# Altium integrated library Vishay Draloric Ceramic Disc Capacitor.IntLib: 519 symbols (part 6 of 8)
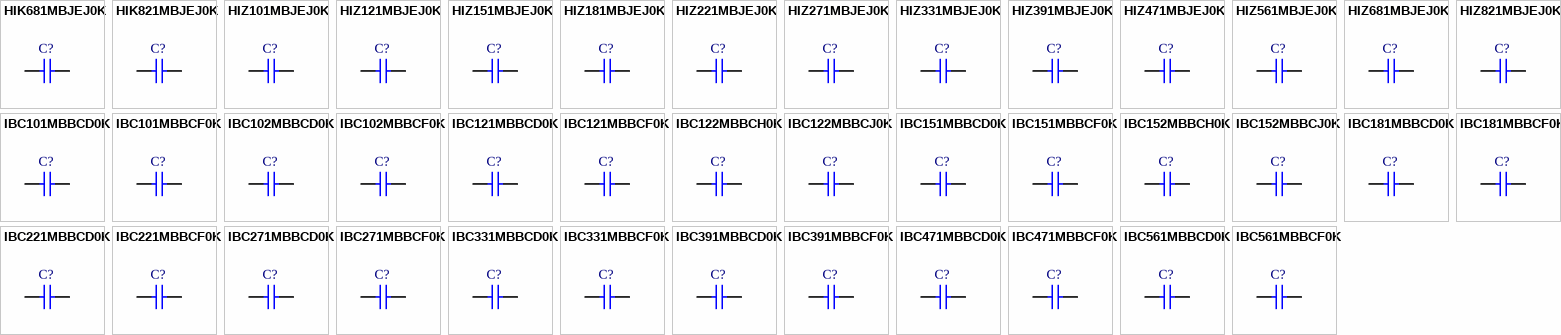
[diagram p17: symbols HIK681MBJEJ0K to IBC561MBBCF0K]

## HIZ331MBJEJ0K
designator C?
Ceramic High Voltage Disc Capacitor, Class 2: 330pF 15kV K 2000; Note: See Datasheet for other lead types & tolerances; Published: 17-Dec-2003; DatasheetDocument: 11-Dec-2001; PackageDocument: 2-Aug-2001; PackageReference: CAPRD12.5-15X11; Publisher: Altium Limited; ComponentLink1Description: Manufacturer Link; ComponentLink1URL: http://www.vishay.com/; ComponentLink2Description: Datasheet; ComponentLink2URL: http://www.vishay.com/docs/22161/h.pdf; Value: 330pF
footprint CAPRD12.5-15X11 (Capacitor, Ceramic, Thru-Hole, Disc; Body 15 x 11 mm (LxW max) Pin Spacing 12.5 mm (typ))
simulation model CAP (Capacitor)
signal-integrity model Cap
pins: 1, 2

## HIZ391MBJEJ0K
designator C?
Ceramic High Voltage Disc Capacitor, Class 2: 390pF 15kV K 2000; Note: See Datasheet for other lead types & tolerances; Published: 17-Dec-2003; DatasheetDocument: 11-Dec-2001; PackageDocument: 2-Aug-2001; PackageReference: CAPRD12.5-16X11; Publisher: Altium Limited; ComponentLink1Description: Manufacturer Link; ComponentLink1URL: http://www.vishay.com/; ComponentLink2Description: Datasheet; ComponentLink2URL: http://www.vishay.com/docs/22161/h.pdf; Value: 390pF
footprint CAPRD12.5-16X11 (Capacitor, Ceramic, Thru-Hole, Disc; Body 16 x 11 mm (LxW max) Pin Spacing 12.5 mm (typ))
simulation model CAP (Capacitor)
signal-integrity model Cap
pins: 1, 2

## HIZ471MBJEJ0K
designator C?
Ceramic High Voltage Disc Capacitor, Class 2: 470pF 15kV K 2000; Note: See Datasheet for other lead types & tolerances; Published: 17-Dec-2003; DatasheetDocument: 11-Dec-2001; PackageDocument: 2-Aug-2001; PackageReference: CAPRD12.5-18X11; Publisher: Altium Limited; ComponentLink1Description: Manufacturer Link; ComponentLink1URL: http://www.vishay.com/; ComponentLink2Description: Datasheet; ComponentLink2URL: http://www.vishay.com/docs/22161/h.pdf; Value: 470pF
footprint CAPRD12.5-18X11 (Capacitor, Ceramic, Thru-Hole, Disc; Body 18 x 11 mm (LxW max) Pin Spacing 12.5 mm (typ))
simulation model CAP (Capacitor)
signal-integrity model Cap
pins: 1, 2

## HIZ561MBJEJ0K
designator C?
Ceramic High Voltage Disc Capacitor, Class 2: 560pF 15kV K 2000; Note: See Datasheet for other lead types & tolerances; Published: 17-Dec-2003; DatasheetDocument: 11-Dec-2001; PackageDocument: 2-Aug-2001; PackageReference: CAPRD12.5-21X11; Publisher: Altium Limited; ComponentLink1Description: Manufacturer Link; ComponentLink1URL: http://www.vishay.com/; ComponentLink2Description: Datasheet; ComponentLink2URL: http://www.vishay.com/docs/22161/h.pdf; Value: 560pF
footprint CAPRD12.5-21X11 (Capacitor, Ceramic, Thru-Hole, Disc; Body 21 x 11 mm (LxW max) Pin Spacing 12.5 mm (typ))
simulation model CAP (Capacitor)
signal-integrity model Cap
pins: 1, 2

## HIZ681MBJEJ0K
designator C?
Ceramic High Voltage Disc Capacitor, Class 2: 680pF 15kV K 2000; Note: See Datasheet for other lead types & tolerances; Published: 17-Dec-2003; DatasheetDocument: 11-Dec-2001; PackageDocument: 2-Aug-2001; PackageReference: CAPRD12.5-21X11; Publisher: Altium Limited; ComponentLink1Description: Manufacturer Link; ComponentLink1URL: http://www.vishay.com/; ComponentLink2Description: Datasheet; ComponentLink2URL: http://www.vishay.com/docs/22161/h.pdf; Value: 680pF
footprint CAPRD12.5-21X11 (Capacitor, Ceramic, Thru-Hole, Disc; Body 21 x 11 mm (LxW max) Pin Spacing 12.5 mm (typ))
simulation model CAP (Capacitor)
signal-integrity model Cap
pins: 1, 2

## HIZ821MBJEJ0K
designator C?
Ceramic High Voltage Disc Capacitor, Class 2: 820pF 15kV K 2000; Note: See Datasheet for other lead types & tolerances; Published: 17-Dec-2003; DatasheetDocument: 11-Dec-2001; PackageDocument: 2-Aug-2001; PackageReference: CAPRD12.5-21X11; Publisher: Altium Limited; ComponentLink1Description: Manufacturer Link; ComponentLink1URL: http://www.vishay.com/; ComponentLink2Description: Datasheet; ComponentLink2URL: http://www.vishay.com/docs/22161/h.pdf; Value: 820pF
footprint CAPRD12.5-21X11 (Capacitor, Ceramic, Thru-Hole, Disc; Body 21 x 11 mm (LxW max) Pin Spacing 12.5 mm (typ))
simulation model CAP (Capacitor)
signal-integrity model Cap
pins: 1, 2

## IBC101MBBCD0K
designator C?
Ceramic Pulse Disc Capacitor, Class 2: 2KV 100pF +/-20% K 2000; Note: See Datasheet for other lead types; Published: 17-Dec-2003; DatasheetDocument: 2-Aug-2001; PackageDocument: 2-Aug-2001; PackageReference: CAPRD7.5-7X5; Publisher: Altium Limited; ComponentLink1Description: Manufacturer Link; ComponentLink1URL: http://www.vishay.com/; ComponentLink2Description: Datasheet; ComponentLink2URL: http://www.vishay.com/docs/22165/ibc.pdf; Value: 100pF
footprint CAPRD7.5-7X5 (Capacitor, Ceramic, Thru-Hole, Disc; Body 7 x 5 mm (LxW max) Pin Spacing 7.5 mm (typ))
simulation model CAP (Capacitor)
signal-integrity model Cap
pins: 1, 2

## IBC101MBBCF0K
designator C?
Ceramic Pulse Disc Capacitor, Class 2: 2KV 100pF +/-20% K 2000; Note: See Datasheet for other lead types; Published: 17-Dec-2003; DatasheetDocument: 2-Aug-2001; PackageDocument: 2-Aug-2001; PackageReference: CAPRD7.5-7X5; Publisher: Altium Limited; ComponentLink1Description: Manufacturer Link; ComponentLink1URL: http://www.vishay.com/; ComponentLink2Description: Datasheet; ComponentLink2URL: http://www.vishay.com/docs/22165/ibc.pdf; Value: 100pF
footprint CAPRD7.5-7X5 (Capacitor, Ceramic, Thru-Hole, Disc; Body 7 x 5 mm (LxW max) Pin Spacing 7.5 mm (typ))
simulation model CAP (Capacitor)
signal-integrity model Cap
pins: 1, 2

## IBC102MBBCD0K
designator C?
Ceramic Pulse Disc Capacitor, Class 2: 2KV 1000pF +/-20% K 2000; Note: See Datasheet for other lead types; Value: 1nF; Published: 17-Dec-2003; DatasheetDocument: 2-Aug-2001; PackageDocument: 2-Aug-2001; PackageReference: CAPRD7.5-17X6; Publisher: Altium Limited; ComponentLink1Description: Manufacturer Link; ComponentLink1URL: http://www.vishay.com/; ComponentLink2Description: Datasheet; ComponentLink2URL: http://www.vishay.com/docs/22165/ibc.pdf
footprint CAPRD7.5-17X6 (Capacitor, Ceramic, Thru-Hole, Disc; Body 17 x 6 mm (LxW max) Pin Spacing 7.5 mm (typ))
simulation model CAP (Capacitor)
signal-integrity model Cap
pins: 1, 2

## IBC102MBBCF0K
designator C?
Ceramic Pulse Disc Capacitor, Class 2: 2KV 1000pF +/-20% K 2000; Note: See Datasheet for other lead types; Value: 1nF; Published: 17-Dec-2003; DatasheetDocument: 2-Aug-2001; PackageDocument: 2-Aug-2001; PackageReference: CAPRD7.5-17X6; Publisher: Altium Limited; ComponentLink1Description: Manufacturer Link; ComponentLink1URL: http://www.vishay.com/; ComponentLink2Description: Datasheet; ComponentLink2URL: http://www.vishay.com/docs/22165/ibc.pdf
footprint CAPRD7.5-17X6 (Capacitor, Ceramic, Thru-Hole, Disc; Body 17 x 6 mm (LxW max) Pin Spacing 7.5 mm (typ))
simulation model CAP (Capacitor)
signal-integrity model Cap
pins: 1, 2

## IBC121MBBCD0K
designator C?
Ceramic Pulse Disc Capacitor, Class 2: 2KV 120pF +/-20% K 2000; Note: See Datasheet for other lead types; Published: 17-Dec-2003; DatasheetDocument: 2-Aug-2001; PackageDocument: 2-Aug-2001; PackageReference: CAPRD7.5-7X5; Publisher: Altium Limited; ComponentLink1Description: Manufacturer Link; ComponentLink1URL: http://www.vishay.com/; ComponentLink2Description: Datasheet; ComponentLink2URL: http://www.vishay.com/docs/22165/ibc.pdf; Value: 120pF
footprint CAPRD7.5-7X5 (Capacitor, Ceramic, Thru-Hole, Disc; Body 7 x 5 mm (LxW max) Pin Spacing 7.5 mm (typ))
simulation model CAP (Capacitor)
signal-integrity model Cap
pins: 1, 2

## IBC121MBBCF0K
designator C?
Ceramic Pulse Disc Capacitor, Class 2: 2KV 120pF +/-20% K 2000; Note: See Datasheet for other lead types; Published: 17-Dec-2003; DatasheetDocument: 2-Aug-2001; PackageDocument: 2-Aug-2001; PackageReference: CAPRD7.5-7X5; Publisher: Altium Limited; ComponentLink1Description: Manufacturer Link; ComponentLink1URL: http://www.vishay.com/; ComponentLink2Description: Datasheet; ComponentLink2URL: http://www.vishay.com/docs/22165/ibc.pdf; Value: 120pF
footprint CAPRD7.5-7X5 (Capacitor, Ceramic, Thru-Hole, Disc; Body 7 x 5 mm (LxW max) Pin Spacing 7.5 mm (typ))
simulation model CAP (Capacitor)
signal-integrity model Cap
pins: 1, 2

## IBC122MBBCH0K
designator C?
Ceramic Pulse Disc Capacitor, Class 2: 2KV 1200pF +/-20% K 2000; Note: See Datasheet for other lead types; Value: 1.2nF; Published: 17-Dec-2003; DatasheetDocument: 2-Aug-2001; PackageDocument: 2-Aug-2001; PackageReference: CAPRD7.5-19X6; Publisher: Altium Limited; ComponentLink1Description: Manufacturer Link; ComponentLink1URL: http://www.vishay.com/; ComponentLink2Description: Datasheet; ComponentLink2URL: http://www.vishay.com/docs/22165/ibc.pdf
footprint CAPRD7.5-19X6 (Capacitor, Ceramic, Thru-Hole, Disc; Body 19 x 6 mm (LxW max) Pin Spacing 7.5 mm (typ))
simulation model CAP (Capacitor)
signal-integrity model Cap
pins: 1, 2

## IBC122MBBCJ0K
designator C?
Ceramic Pulse Disc Capacitor, Class 2: 2KV 1200pF +/-20% K 2000; Note: See Datasheet for other lead types; Value: 1.2nF; Published: 17-Dec-2003; DatasheetDocument: 2-Aug-2001; PackageDocument: 2-Aug-2001; PackageReference: CAPRD7.5-19X6; Publisher: Altium Limited; ComponentLink1Description: Manufacturer Link; ComponentLink1URL: http://www.vishay.com/; ComponentLink2Description: Datasheet; ComponentLink2URL: http://www.vishay.com/docs/22165/ibc.pdf
footprint CAPRD7.5-19X6 (Capacitor, Ceramic, Thru-Hole, Disc; Body 19 x 6 mm (LxW max) Pin Spacing 7.5 mm (typ))
simulation model CAP (Capacitor)
signal-integrity model Cap
pins: 1, 2

## IBC151MBBCD0K
designator C?
Ceramic Pulse Disc Capacitor, Class 2: 2KV 150pF +/-20% K 2000; Note: See Datasheet for other lead types; Published: 17-Dec-2003; DatasheetDocument: 2-Aug-2001; PackageDocument: 2-Aug-2001; PackageReference: CAPRD7.5-7X5; Publisher: Altium Limited; ComponentLink1Description: Manufacturer Link; ComponentLink1URL: http://www.vishay.com/; ComponentLink2Description: Datasheet; ComponentLink2URL: http://www.vishay.com/docs/22165/ibc.pdf; Value: 150pF
footprint CAPRD7.5-7X5 (Capacitor, Ceramic, Thru-Hole, Disc; Body 7 x 5 mm (LxW max) Pin Spacing 7.5 mm (typ))
simulation model CAP (Capacitor)
signal-integrity model Cap
pins: 1, 2

## IBC151MBBCF0K
designator C?
Ceramic Pulse Disc Capacitor, Class 2: 2KV 150pF +/-20% K 2000; Note: See Datasheet for other lead types; Published: 17-Dec-2003; DatasheetDocument: 2-Aug-2001; PackageDocument: 2-Aug-2001; PackageReference: CAPRD7.5-7X5; Publisher: Altium Limited; ComponentLink1Description: Manufacturer Link; ComponentLink1URL: http://www.vishay.com/; ComponentLink2Description: Datasheet; ComponentLink2URL: http://www.vishay.com/docs/22165/ibc.pdf; Value: 150pF
footprint CAPRD7.5-7X5 (Capacitor, Ceramic, Thru-Hole, Disc; Body 7 x 5 mm (LxW max) Pin Spacing 7.5 mm (typ))
simulation model CAP (Capacitor)
signal-integrity model Cap
pins: 1, 2

## IBC152MBBCH0K
designator C?
Ceramic Pulse Disc Capacitor, Class 2: 2KV 1500pF +/-20% K 2000; Note: See Datasheet for other lead types; Value: 1.5nF; Published: 17-Dec-2003; DatasheetDocument: 2-Aug-2001; PackageDocument: 2-Aug-2001; PackageReference: CAPRD7.5-19X6; Publisher: Altium Limited; ComponentLink1Description: Manufacturer Link; ComponentLink1URL: http://www.vishay.com/; ComponentLink2Description: Datasheet; ComponentLink2URL: http://www.vishay.com/docs/22165/ibc.pdf
footprint CAPRD7.5-19X6 (Capacitor, Ceramic, Thru-Hole, Disc; Body 19 x 6 mm (LxW max) Pin Spacing 7.5 mm (typ))
simulation model CAP (Capacitor)
signal-integrity model Cap
pins: 1, 2

## IBC152MBBCJ0K
designator C?
Ceramic Pulse Disc Capacitor, Class 2: 2KV 1500pF +/-20% K 2000; Note: See Datasheet for other lead types; Value: 1.5nF; Published: 17-Dec-2003; DatasheetDocument: 2-Aug-2001; PackageDocument: 2-Aug-2001; PackageReference: CAPRD7.5-19X6; Publisher: Altium Limited; ComponentLink1Description: Manufacturer Link; ComponentLink1URL: http://www.vishay.com/; ComponentLink2Description: Datasheet; ComponentLink2URL: http://www.vishay.com/docs/22165/ibc.pdf
footprint CAPRD7.5-19X6 (Capacitor, Ceramic, Thru-Hole, Disc; Body 19 x 6 mm (LxW max) Pin Spacing 7.5 mm (typ))
simulation model CAP (Capacitor)
signal-integrity model Cap
pins: 1, 2

## IBC181MBBCD0K
designator C?
Ceramic Pulse Disc Capacitor, Class 2: 2KV 180pF +/-20% K 2000; Note: See Datasheet for other lead types; Published: 17-Dec-2003; DatasheetDocument: 2-Aug-2001; PackageDocument: 2-Aug-2001; PackageReference: CAPRD7.5-7X6; Publisher: Altium Limited; ComponentLink1Description: Manufacturer Link; ComponentLink1URL: http://www.vishay.com/; ComponentLink2Description: Datasheet; ComponentLink2URL: http://www.vishay.com/docs/22165/ibc.pdf; Value: 180pF
footprint CAPRD7.5-7X6 (Capacitor, Ceramic, Thru-Hole, Disc; Body 7 x 6 mm (LxW max) Pin Spacing 7.5 mm (typ))
simulation model CAP (Capacitor)
signal-integrity model Cap
pins: 1, 2

## IBC181MBBCF0K
designator C?
Ceramic Pulse Disc Capacitor, Class 2: 2KV 180pF +/-20% K 2000; Note: See Datasheet for other lead types; Published: 17-Dec-2003; DatasheetDocument: 2-Aug-2001; PackageDocument: 2-Aug-2001; PackageReference: CAPRD7.5-7X6; Publisher: Altium Limited; ComponentLink1Description: Manufacturer Link; ComponentLink1URL: http://www.vishay.com/; ComponentLink2Description: Datasheet; ComponentLink2URL: http://www.vishay.com/docs/22165/ibc.pdf; Value: 180pF
footprint CAPRD7.5-7X6 (Capacitor, Ceramic, Thru-Hole, Disc; Body 7 x 6 mm (LxW max) Pin Spacing 7.5 mm (typ))
simulation model CAP (Capacitor)
signal-integrity model Cap
pins: 1, 2

## IBC221MBBCD0K
designator C?
Ceramic Pulse Disc Capacitor, Class 2: 2KV 220pF +/-20% K 2000; Note: See Datasheet for other lead types; Published: 17-Dec-2003; DatasheetDocument: 2-Aug-2001; PackageDocument: 2-Aug-2001; PackageReference: CAPRD7.5-9X5; Publisher: Altium Limited; ComponentLink1Description: Manufacturer Link; ComponentLink1URL: http://www.vishay.com/; ComponentLink2Description: Datasheet; ComponentLink2URL: http://www.vishay.com/docs/22165/ibc.pdf; Value: 220pF
footprint CAPRD7.5-9X5 (Capacitor, Ceramic, Thru-Hole, Disc; Body 9 x 5 mm (LxW max) Pin Spacing 7.5 mm (typ))
simulation model CAP (Capacitor)
signal-integrity model Cap
pins: 1, 2

## IBC221MBBCF0K
designator C?
Ceramic Pulse Disc Capacitor, Class 2: 2KV 220pF +/-20% K 2000; Note: See Datasheet for other lead types; Published: 17-Dec-2003; DatasheetDocument: 2-Aug-2001; PackageDocument: 2-Aug-2001; PackageReference: CAPRD7.5-9X5; Publisher: Altium Limited; ComponentLink1Description: Manufacturer Link; ComponentLink1URL: http://www.vishay.com/; ComponentLink2Description: Datasheet; ComponentLink2URL: http://www.vishay.com/docs/22165/ibc.pdf; Value: 220pF
footprint CAPRD7.5-9X5 (Capacitor, Ceramic, Thru-Hole, Disc; Body 9 x 5 mm (LxW max) Pin Spacing 7.5 mm (typ))
simulation model CAP (Capacitor)
signal-integrity model Cap
pins: 1, 2

## IBC271MBBCD0K
designator C?
Ceramic Pulse Disc Capacitor, Class 2: 2KV 270pF +/-20% K 2000; Note: See Datasheet for other lead types; Published: 17-Dec-2003; DatasheetDocument: 2-Aug-2001; PackageDocument: 2-Aug-2001; PackageReference: CAPRD7.5-9X5.5; Publisher: Altium Limited; ComponentLink1Description: Manufacturer Link; ComponentLink1URL: http://www.vishay.com/; ComponentLink2Description: Datasheet; ComponentLink2URL: http://www.vishay.com/docs/22165/ibc.pdf; Value: 270pF
footprint CAPRD7.5-9X5.5 (Capacitor, Ceramic, Thru-Hole, Disc; Body 9 x 5.5 mm (LxW max) Pin Spacing 7.5 mm (typ))
simulation model CAP (Capacitor)
signal-integrity model Cap
pins: 1, 2

## IBC271MBBCF0K
designator C?
Ceramic Pulse Disc Capacitor, Class 2: 2KV 270pF +/-20% K 2000; Note: See Datasheet for other lead types; Published: 17-Dec-2003; DatasheetDocument: 2-Aug-2001; PackageDocument: 2-Aug-2001; PackageReference: CAPRD7.5-9X5.5; Publisher: Altium Limited; ComponentLink1Description: Manufacturer Link; ComponentLink1URL: http://www.vishay.com/; ComponentLink2Description: Datasheet; ComponentLink2URL: http://www.vishay.com/docs/22165/ibc.pdf; Value: 270pF
footprint CAPRD7.5-9X5.5 (Capacitor, Ceramic, Thru-Hole, Disc; Body 9 x 5.5 mm (LxW max) Pin Spacing 7.5 mm (typ))
simulation model CAP (Capacitor)
signal-integrity model Cap
pins: 1, 2

## IBC331MBBCD0K
designator C?
Ceramic Pulse Disc Capacitor, Class 2: 2KV 330pF +/-20% K 2000; Note: See Datasheet for other lead types; Published: 17-Dec-2003; DatasheetDocument: 2-Aug-2001; PackageDocument: 2-Aug-2001; PackageReference: CAPRD7.5-9X5.5; Publisher: Altium Limited; ComponentLink1Description: Manufacturer Link; ComponentLink1URL: http://www.vishay.com/; ComponentLink2Description: Datasheet; ComponentLink2URL: http://www.vishay.com/docs/22165/ibc.pdf; Value: 330pF
footprint CAPRD7.5-9X5.5 (Capacitor, Ceramic, Thru-Hole, Disc; Body 9 x 5.5 mm (LxW max) Pin Spacing 7.5 mm (typ))
simulation model CAP (Capacitor)
signal-integrity model Cap
pins: 1, 2

## IBC331MBBCF0K
designator C?
Ceramic Pulse Disc Capacitor, Class 2: 2KV 330pF +/-20% K 2000; Note: See Datasheet for other lead types; Published: 17-Dec-2003; DatasheetDocument: 2-Aug-2001; PackageDocument: 2-Aug-2001; PackageReference: CAPRD7.5-9X5.5; Publisher: Altium Limited; ComponentLink1Description: Manufacturer Link; ComponentLink1URL: http://www.vishay.com/; ComponentLink2Description: Datasheet; ComponentLink2URL: http://www.vishay.com/docs/22165/ibc.pdf; Value: 330pF
footprint CAPRD7.5-9X5.5 (Capacitor, Ceramic, Thru-Hole, Disc; Body 9 x 5.5 mm (LxW max) Pin Spacing 7.5 mm (typ))
simulation model CAP (Capacitor)
signal-integrity model Cap
pins: 1, 2

## IBC391MBBCD0K
designator C?
Ceramic Pulse Disc Capacitor, Class 2: 2KV 390pF +/-20% K 2000; Note: See Datasheet for other lead types; Published: 17-Dec-2003; DatasheetDocument: 2-Aug-2001; PackageDocument: 2-Aug-2001; PackageReference: CAPRD7.5-13X6; Publisher: Altium Limited; ComponentLink1Description: Manufacturer Link; ComponentLink1URL: http://www.vishay.com/; ComponentLink2Description: Datasheet; ComponentLink2URL: http://www.vishay.com/docs/22165/ibc.pdf; Value: 390pF
footprint CAPRD7.5-13X6 (Capacitor, Ceramic, Thru-Hole, Disc; Body 13 x 6 mm (LxW max) Pin Spacing 7.5 mm (typ))
simulation model CAP (Capacitor)
signal-integrity model Cap
pins: 1, 2

## IBC391MBBCF0K
designator C?
Ceramic Pulse Disc Capacitor, Class 2: 2KV 390pF +/-20% K 2000; Note: See Datasheet for other lead types; Published: 17-Dec-2003; DatasheetDocument: 2-Aug-2001; PackageDocument: 2-Aug-2001; PackageReference: CAPRD7.5-13X6; Publisher: Altium Limited; ComponentLink1Description: Manufacturer Link; ComponentLink1URL: http://www.vishay.com/; ComponentLink2Description: Datasheet; ComponentLink2URL: http://www.vishay.com/docs/22165/ibc.pdf; Value: 390pF
footprint CAPRD7.5-13X6 (Capacitor, Ceramic, Thru-Hole, Disc; Body 13 x 6 mm (LxW max) Pin Spacing 7.5 mm (typ))
simulation model CAP (Capacitor)
signal-integrity model Cap
pins: 1, 2

## IBC471MBBCD0K
designator C?
Ceramic Pulse Disc Capacitor, Class 2: 2KV 470pF +/-20% K 2000; Note: See Datasheet for other lead types; Published: 17-Dec-2003; DatasheetDocument: 2-Aug-2001; PackageDocument: 2-Aug-2001; PackageReference: CAPRD7.5-13X6; Publisher: Altium Limited; ComponentLink1Description: Manufacturer Link; ComponentLink1URL: http://www.vishay.com/; ComponentLink2Description: Datasheet; ComponentLink2URL: http://www.vishay.com/docs/22165/ibc.pdf; Value: 470pF
footprint CAPRD7.5-13X6 (Capacitor, Ceramic, Thru-Hole, Disc; Body 13 x 6 mm (LxW max) Pin Spacing 7.5 mm (typ))
simulation model CAP (Capacitor)
signal-integrity model Cap
pins: 1, 2

## IBC471MBBCF0K
designator C?
Ceramic Pulse Disc Capacitor, Class 2: 2KV 470pF +/-20% K 2000; Note: See Datasheet for other lead types; Published: 17-Dec-2003; DatasheetDocument: 2-Aug-2001; PackageDocument: 2-Aug-2001; PackageReference: CAPRD7.5-13X6; Publisher: Altium Limited; ComponentLink1Description: Manufacturer Link; ComponentLink1URL: http://www.vishay.com/; ComponentLink2Description: Datasheet; ComponentLink2URL: http://www.vishay.com/docs/22165/ibc.pdf; Value: 470pF
footprint CAPRD7.5-13X6 (Capacitor, Ceramic, Thru-Hole, Disc; Body 13 x 6 mm (LxW max) Pin Spacing 7.5 mm (typ))
simulation model CAP (Capacitor)
signal-integrity model Cap
pins: 1, 2

## IBC561MBBCD0K
designator C?
Ceramic Pulse Disc Capacitor, Class 2: 2KV 560pF +/-20% K 2000; Note: See Datasheet for other lead types; Published: 17-Dec-2003; DatasheetDocument: 2-Aug-2001; PackageDocument: 2-Aug-2001; PackageReference: CAPRD7.5-17X6; Publisher: Altium Limited; ComponentLink1Description: Manufacturer Link; ComponentLink1URL: http://www.vishay.com/; ComponentLink2Description: Datasheet; ComponentLink2URL: http://www.vishay.com/docs/22165/ibc.pdf; Value: 560pF
footprint CAPRD7.5-17X6 (Capacitor, Ceramic, Thru-Hole, Disc; Body 17 x 6 mm (LxW max) Pin Spacing 7.5 mm (typ))
simulation model CAP (Capacitor)
signal-integrity model Cap
pins: 1, 2

## IBC561MBBCF0K
designator C?
Ceramic Pulse Disc Capacitor, Class 2: 2KV 560pF +/-20% K 2000; Note: See Datasheet for other lead types; Published: 17-Dec-2003; DatasheetDocument: 2-Aug-2001; PackageDocument: 2-Aug-2001; PackageReference: CAPRD7.5-17X6; Publisher: Altium Limited; ComponentLink1Description: Manufacturer Link; ComponentLink1URL: http://www.vishay.com/; ComponentLink2Description: Datasheet; ComponentLink2URL: http://www.vishay.com/docs/22165/ibc.pdf; Value: 560pF
footprint CAPRD7.5-17X6 (Capacitor, Ceramic, Thru-Hole, Disc; Body 17 x 6 mm (LxW max) Pin Spacing 7.5 mm (typ))
simulation model CAP (Capacitor)
signal-integrity model Cap
pins: 1, 2

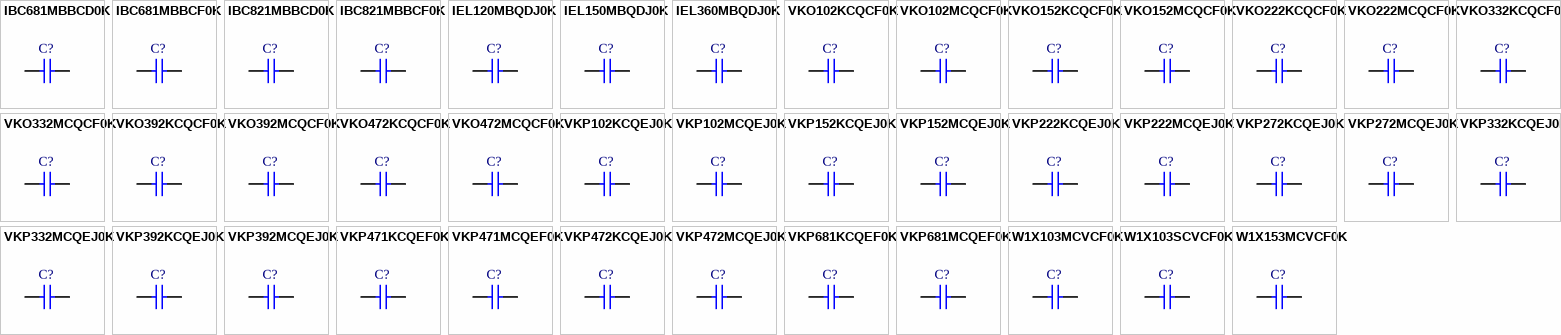
[diagram p10: symbols IBC681MBBCD0K to W1X153MCVCF0K]

## IBC681MBBCD0K
designator C?
Ceramic Pulse Disc Capacitor, Class 2: 2KV 680pF +/-20% K 2000; Note: See Datasheet for other lead types; Published: 17-Dec-2003; DatasheetDocument: 2-Aug-2001; PackageDocument: 2-Aug-2001; PackageReference: CAPRD7.5-17X6; Publisher: Altium Limited; ComponentLink1Description: Manufacturer Link; ComponentLink1URL: http://www.vishay.com/; ComponentLink2Description: Datasheet; ComponentLink2URL: http://www.vishay.com/docs/22165/ibc.pdf; Value: 680pF
footprint CAPRD7.5-17X6 (Capacitor, Ceramic, Thru-Hole, Disc; Body 17 x 6 mm (LxW max) Pin Spacing 7.5 mm (typ))
simulation model CAP (Capacitor)
signal-integrity model Cap
pins: 1, 2

## IBC681MBBCF0K
designator C?
Ceramic Pulse Disc Capacitor, Class 2: 2KV 680pF +/-20% K 2000; Note: See Datasheet for other lead types; Published: 17-Dec-2003; DatasheetDocument: 2-Aug-2001; PackageDocument: 2-Aug-2001; PackageReference: CAPRD7.5-17X6; Publisher: Altium Limited; ComponentLink1Description: Manufacturer Link; ComponentLink1URL: http://www.vishay.com/; ComponentLink2Description: Datasheet; ComponentLink2URL: http://www.vishay.com/docs/22165/ibc.pdf; Value: 680pF
footprint CAPRD7.5-17X6 (Capacitor, Ceramic, Thru-Hole, Disc; Body 17 x 6 mm (LxW max) Pin Spacing 7.5 mm (typ))
simulation model CAP (Capacitor)
signal-integrity model Cap
pins: 1, 2

## IBC821MBBCD0K
designator C?
Ceramic Pulse Disc Capacitor, Class 2: 2KV 820pF +/-20% K 2000; Note: See Datasheet for other lead types; Published: 17-Dec-2003; DatasheetDocument: 2-Aug-2001; PackageDocument: 2-Aug-2001; PackageReference: CAPRD7.5-17X6; Publisher: Altium Limited; ComponentLink1Description: Manufacturer Link; ComponentLink1URL: http://www.vishay.com/; ComponentLink2Description: Datasheet; ComponentLink2URL: http://www.vishay.com/docs/22165/ibc.pdf; Value: 820pF
footprint CAPRD7.5-17X6 (Capacitor, Ceramic, Thru-Hole, Disc; Body 17 x 6 mm (LxW max) Pin Spacing 7.5 mm (typ))
simulation model CAP (Capacitor)
signal-integrity model Cap
pins: 1, 2

## IBC821MBBCF0K
designator C?
Ceramic Pulse Disc Capacitor, Class 2: 2KV 820pF +/-20% K 2000; Note: See Datasheet for other lead types; Published: 17-Dec-2003; DatasheetDocument: 2-Aug-2001; PackageDocument: 2-Aug-2001; PackageReference: CAPRD7.5-17X6; Publisher: Altium Limited; ComponentLink1Description: Manufacturer Link; ComponentLink1URL: http://www.vishay.com/; ComponentLink2Description: Datasheet; ComponentLink2URL: http://www.vishay.com/docs/22165/ibc.pdf; Value: 820pF
footprint CAPRD7.5-17X6 (Capacitor, Ceramic, Thru-Hole, Disc; Body 17 x 6 mm (LxW max) Pin Spacing 7.5 mm (typ))
simulation model CAP (Capacitor)
signal-integrity model Cap
pins: 1, 2

## IEL120MBQDJ0K
designator C?
Ceramic Pulse Disc Capacitor, Class 1: 12pF 25kV N 750; Note: See Datasheet for other lead types; Published: 17-Dec-2003; DatasheetDocument: 2-Sep-2000; PackageDocument: 2-Aug-2001; PackageReference: CAPRD10-10X8; Publisher: Altium Limited; ComponentLink1Description: Manufacturer Link; ComponentLink1URL: http://www.vishay.com/; ComponentLink2Description: Datasheet; ComponentLink2URL: http://www.vishay.com/docs/22163/iel.pdf; Value: 12pF
footprint CAPRD10-10X8 (Capacitor, Ceramic, Thru-Hole, Disc; Body 10 x 8 mm (LxW max) Pin Spacing 10 mm (typ))
simulation model CAP (Capacitor)
signal-integrity model Cap
pins: 1, 2

## IEL150MBQDJ0K
designator C?
Ceramic Pulse Disc Capacitor, Class 1: 15pF 25kV N 750; Note: See Datasheet for other lead types; Published: 17-Dec-2003; DatasheetDocument: 2-Sep-2000; PackageDocument: 2-Aug-2001; PackageReference: CAPRD10-10X8; Publisher: Altium Limited; ComponentLink1Description: Manufacturer Link; ComponentLink1URL: http://www.vishay.com/; ComponentLink2Description: Datasheet; ComponentLink2URL: http://www.vishay.com/docs/22163/iel.pdf; Value: 15pF
footprint CAPRD10-10X8 (Capacitor, Ceramic, Thru-Hole, Disc; Body 10 x 8 mm (LxW max) Pin Spacing 10 mm (typ))
simulation model CAP (Capacitor)
signal-integrity model Cap
pins: 1, 2

## IEL360MBQDJ0K
designator C?
Ceramic Pulse Disc Capacitor, Class 1: 36pF 25kV N 2200; Note: See Datasheet for other lead types; Published: 17-Dec-2003; DatasheetDocument: 2-Sep-2000; PackageDocument: 2-Aug-2001; PackageReference: CAPRD10-10X8; Publisher: Altium Limited; ComponentLink1Description: Manufacturer Link; ComponentLink1URL: http://www.vishay.com/; ComponentLink2Description: Datasheet; ComponentLink2URL: http://www.vishay.com/docs/22163/iel.pdf; Value: 36pF
footprint CAPRD10-10X8 (Capacitor, Ceramic, Thru-Hole, Disc; Body 10 x 8 mm (LxW max) Pin Spacing 10 mm (typ))
simulation model CAP (Capacitor)
signal-integrity model Cap
pins: 1, 2

## VKO102KCQCF0K
designator C?
Ceramic AC Capacitor, Class X1 440VAC / Class Y2 300VAC: 1000pF K 6000; Note: See Datasheet for other lead types & tolerances; Value: 1nF; Published: 17-Dec-2003; DatasheetDocument: 2-Aug-2001; PackageDocument: 2-Aug-2001; PackageReference: CAPRD7.5-7X4.5A; Publisher: Altium Limited; ComponentLink1Description: Manufacturer Link; ComponentLink1URL: http://www.vishay.com/; ComponentLink2Description: Datasheet; ComponentLink2URL: http://www.vishay.com/docs/22203/vko.pdf
footprint CAPRD7.5-7X4.5A (Capacitor, Ceramic, Thru-Hole, Disc; Body 7 x 4.5 mm (LxW max) Pin Spacing 7.5 mm (typ))
simulation model CAP (Capacitor)
signal-integrity model Cap
pins: 1, 2

## VKO102MCQCF0K
designator C?
Ceramic AC Capacitor, Class X1 440VAC / Class Y2 300VAC: 1000pF K 6000; Note: See Datasheet for other lead types & tolerances; Value: 1nF; Published: 17-Dec-2003; DatasheetDocument: 2-Aug-2001; PackageDocument: 2-Aug-2001; PackageReference: CAPRD7.5-7X4.5A; Publisher: Altium Limited; ComponentLink1Description: Manufacturer Link; ComponentLink1URL: http://www.vishay.com/; ComponentLink2Description: Datasheet; ComponentLink2URL: http://www.vishay.com/docs/22203/vko.pdf
footprint CAPRD7.5-7X4.5A (Capacitor, Ceramic, Thru-Hole, Disc; Body 7 x 4.5 mm (LxW max) Pin Spacing 7.5 mm (typ))
simulation model CAP (Capacitor)
signal-integrity model Cap
pins: 1, 2

## VKO152KCQCF0K
designator C?
Ceramic AC Capacitor, Class X1 440VAC / Class Y2 300VAC: 1500pF K 6000; Note: See Datasheet for other lead types & tolerances; Value: 1.5nF; Published: 17-Dec-2003; DatasheetDocument: 2-Aug-2001; PackageDocument: 2-Aug-2001; PackageReference: CAPRD7.5-8X4.5; Publisher: Altium Limited; ComponentLink1Description: Manufacturer Link; ComponentLink1URL: http://www.vishay.com/; ComponentLink2Description: Datasheet; ComponentLink2URL: http://www.vishay.com/docs/22203/vko.pdf
footprint CAPRD7.5-8X4.5 (Capacitor, Ceramic, Thru-Hole, Disc; Body 8 x 4.5 mm (LxW max) Pin Spacing 7.5 mm (typ))
simulation model CAP (Capacitor)
signal-integrity model Cap
pins: 1, 2

## VKO152MCQCF0K
designator C?
Ceramic AC Capacitor, Class X1 440VAC / Class Y2 300VAC: 1500pF K 6000; Note: See Datasheet for other lead types & tolerances; Value: 1.5nF; Published: 17-Dec-2003; DatasheetDocument: 2-Aug-2001; PackageDocument: 2-Aug-2001; PackageReference: CAPRD7.5-8X4.5; Publisher: Altium Limited; ComponentLink1Description: Manufacturer Link; ComponentLink1URL: http://www.vishay.com/; ComponentLink2Description: Datasheet; ComponentLink2URL: http://www.vishay.com/docs/22203/vko.pdf
footprint CAPRD7.5-8X4.5 (Capacitor, Ceramic, Thru-Hole, Disc; Body 8 x 4.5 mm (LxW max) Pin Spacing 7.5 mm (typ))
simulation model CAP (Capacitor)
signal-integrity model Cap
pins: 1, 2

## VKO222KCQCF0K
designator C?
Ceramic AC Capacitor, Class X1 440VAC / Class Y2 300VAC: 2200pF K 6000; Note: See Datasheet for other lead types & tolerances; Value: 2.2nF; Published: 17-Dec-2003; DatasheetDocument: 2-Aug-2001; PackageDocument: 2-Aug-2001; PackageReference: CAPRD7.5-10X4.5; Publisher: Altium Limited; ComponentLink1Description: Manufacturer Link; ComponentLink1URL: http://www.vishay.com/; ComponentLink2Description: Datasheet; ComponentLink2URL: http://www.vishay.com/docs/22203/vko.pdf
footprint CAPRD7.5-10X4.5 (Capacitor, Ceramic, Thru-Hole, Disc; Body 10 x 4.5 mm (LxW max) Pin Spacing 7.5 mm (typ))
simulation model CAP (Capacitor)
signal-integrity model Cap
pins: 1, 2

## VKO222MCQCF0K
designator C?
Ceramic AC Capacitor, Class X1 440VAC / Class Y2 300VAC: 2200pF K 6000; Note: See Datasheet for other lead types & tolerances; Value: 2.2nF; Published: 17-Dec-2003; DatasheetDocument: 2-Aug-2001; PackageDocument: 2-Aug-2001; PackageReference: CAPRD7.5-10X4.5; Publisher: Altium Limited; ComponentLink1Description: Manufacturer Link; ComponentLink1URL: http://www.vishay.com/; ComponentLink2Description: Datasheet; ComponentLink2URL: http://www.vishay.com/docs/22203/vko.pdf
footprint CAPRD7.5-10X4.5 (Capacitor, Ceramic, Thru-Hole, Disc; Body 10 x 4.5 mm (LxW max) Pin Spacing 7.5 mm (typ))
simulation model CAP (Capacitor)
signal-integrity model Cap
pins: 1, 2

## VKO332KCQCF0K
designator C?
Ceramic AC Capacitor, Class X1 440VAC / Class Y2 300VAC: 3300pF K 6000; Note: See Datasheet for other lead types & tolerances; Value: 3.3nF; Published: 17-Dec-2003; DatasheetDocument: 2-Aug-2001; PackageDocument: 2-Aug-2001; PackageReference: CAPRD7.5-11.5X4.5; Publisher: Altium Limited; ComponentLink1Description: Manufacturer Link; ComponentLink1URL: http://www.vishay.com/; ComponentLink2Description: Datasheet; ComponentLink2URL: http://www.vishay.com/docs/22203/vko.pdf
footprint CAPRD7.5-11.5X4.5 (Capacitor, Ceramic, Thru-Hole, Disc; Body 11.5 x 4.5 mm (LxW max) Pin Spacing 7.5 mm (typ))
simulation model CAP (Capacitor)
signal-integrity model Cap
pins: 1, 2

## VKO332MCQCF0K
designator C?
Ceramic AC Capacitor, Class X1 440VAC / Class Y2 300VAC: 3300pF K 6000; Note: See Datasheet for other lead types & tolerances; Value: 3.3nF; Published: 17-Dec-2003; DatasheetDocument: 2-Aug-2001; PackageDocument: 2-Aug-2001; PackageReference: CAPRD7.5-11.5X4.5; Publisher: Altium Limited; ComponentLink1Description: Manufacturer Link; ComponentLink1URL: http://www.vishay.com/; ComponentLink2Description: Datasheet; ComponentLink2URL: http://www.vishay.com/docs/22203/vko.pdf
footprint CAPRD7.5-11.5X4.5 (Capacitor, Ceramic, Thru-Hole, Disc; Body 11.5 x 4.5 mm (LxW max) Pin Spacing 7.5 mm (typ))
simulation model CAP (Capacitor)
signal-integrity model Cap
pins: 1, 2

## VKO392KCQCF0K
designator C?
Ceramic AC Capacitor, Class X1 440VAC / Class Y2 300VAC: 3900pF K 6000; Note: See Datasheet for other lead types & tolerances; Value: 3.9nF; Published: 17-Dec-2003; DatasheetDocument: 2-Aug-2001; PackageDocument: 2-Aug-2001; PackageReference: CAPRD7.5-14X4.5A; Publisher: Altium Limited; ComponentLink1Description: Manufacturer Link; ComponentLink1URL: http://www.vishay.com/; ComponentLink2Description: Datasheet; ComponentLink2URL: http://www.vishay.com/docs/22203/vko.pdf
footprint CAPRD7.5-14X4.5A (Capacitor, Ceramic, Thru-Hole, Disc; Body 14 x 4.5 mm (LxW max) Pin Spacing 7.5 mm (typ))
simulation model CAP (Capacitor)
signal-integrity model Cap
pins: 1, 2

## VKO392MCQCF0K
designator C?
Ceramic AC Capacitor, Class X1 440VAC / Class Y2 300VAC: 3900pF K 6000; Note: See Datasheet for other lead types & tolerances; Value: 3.9nF; Published: 17-Dec-2003; DatasheetDocument: 2-Aug-2001; PackageDocument: 2-Aug-2001; PackageReference: CAPRD7.5-14X4.5A; Publisher: Altium Limited; ComponentLink1Description: Manufacturer Link; ComponentLink1URL: http://www.vishay.com/; ComponentLink2Description: Datasheet; ComponentLink2URL: http://www.vishay.com/docs/22203/vko.pdf
footprint CAPRD7.5-14X4.5A (Capacitor, Ceramic, Thru-Hole, Disc; Body 14 x 4.5 mm (LxW max) Pin Spacing 7.5 mm (typ))
simulation model CAP (Capacitor)
signal-integrity model Cap
pins: 1, 2

## VKO472KCQCF0K
designator C?
Ceramic AC Capacitor, Class X1 440VAC / Class Y2 300VAC: 4700pF K 6000; Note: See Datasheet for other lead types & tolerances; Value: 4.7nF; Published: 17-Dec-2003; DatasheetDocument: 2-Aug-2001; PackageDocument: 2-Aug-2001; PackageReference: CAPRD7.5-14X4.5A; Publisher: Altium Limited; ComponentLink1Description: Manufacturer Link; ComponentLink1URL: http://www.vishay.com/; ComponentLink2Description: Datasheet; ComponentLink2URL: http://www.vishay.com/docs/22203/vko.pdf
footprint CAPRD7.5-14X4.5A (Capacitor, Ceramic, Thru-Hole, Disc; Body 14 x 4.5 mm (LxW max) Pin Spacing 7.5 mm (typ))
simulation model CAP (Capacitor)
signal-integrity model Cap
pins: 1, 2

## VKO472MCQCF0K
designator C?
Ceramic AC Capacitor, Class X1 440VAC / Class Y2 300VAC: 4700pF K 6000; Note: See Datasheet for other lead types & tolerances; Value: 4.7nF; Published: 17-Dec-2003; DatasheetDocument: 2-Aug-2001; PackageDocument: 2-Aug-2001; PackageReference: CAPRD7.5-14X4.5A; Publisher: Altium Limited; ComponentLink1Description: Manufacturer Link; ComponentLink1URL: http://www.vishay.com/; ComponentLink2Description: Datasheet; ComponentLink2URL: http://www.vishay.com/docs/22203/vko.pdf
footprint CAPRD7.5-14X4.5A (Capacitor, Ceramic, Thru-Hole, Disc; Body 14 x 4.5 mm (LxW max) Pin Spacing 7.5 mm (typ))
simulation model CAP (Capacitor)
signal-integrity model Cap
pins: 1, 2

## VKP102KCQEJ0K
designator C?
Ceramic AC Capacitor, Class X1 760VAC / Class Y1 500VAC: 1000pF K 4000; Note: See Datasheet for other lead types & tolerances; Value: 1nF; Published: 17-Dec-2003; DatasheetDocument: 2-Aug-2001; PackageDocument: 2-Aug-2001; PackageReference: CAPRD12.5-9X5; Publisher: Altium Limited; ComponentLink1Description: Manufacturer Link; ComponentLink1URL: http://www.vishay.com/; ComponentLink2Description: Datasheet; ComponentLink2URL: http://www.vishay.com/docs/22205/vkp.pdf
footprint CAPRD12.5-9X5 (Capacitor, Ceramic, Thru-Hole, Disc; Body 9 x 5 mm (LxW max) Pin Spacing 12.5 mm (typ))
simulation model CAP (Capacitor)
signal-integrity model Cap
pins: 1, 2

## VKP102MCQEJ0K
designator C?
Ceramic AC Capacitor, Class X1 760VAC / Class Y1 500VAC: 1000pF K 4000; Note: See Datasheet for other lead types & tolerances; Value: 1nF; Published: 17-Dec-2003; DatasheetDocument: 2-Aug-2001; PackageDocument: 2-Aug-2001; PackageReference: CAPRD12.5-9X5; Publisher: Altium Limited; ComponentLink1Description: Manufacturer Link; ComponentLink1URL: http://www.vishay.com/; ComponentLink2Description: Datasheet; ComponentLink2URL: http://www.vishay.com/docs/22205/vkp.pdf
footprint CAPRD12.5-9X5 (Capacitor, Ceramic, Thru-Hole, Disc; Body 9 x 5 mm (LxW max) Pin Spacing 12.5 mm (typ))
simulation model CAP (Capacitor)
signal-integrity model Cap
pins: 1, 2

## VKP152KCQEJ0K
designator C?
Ceramic AC Capacitor, Class X1 760VAC / Class Y1 500VAC: 1500pF K 4000; Note: See Datasheet for other lead types & tolerances; Value: 1.5nF; Published: 17-Dec-2003; DatasheetDocument: 2-Aug-2001; PackageDocument: 2-Aug-2001; PackageReference: CAPRD12.5-10X5; Publisher: Altium Limited; ComponentLink1Description: Manufacturer Link; ComponentLink1URL: http://www.vishay.com/; ComponentLink2Description: Datasheet; ComponentLink2URL: http://www.vishay.com/docs/22205/vkp.pdf
footprint CAPRD12.5-10X5 (Capacitor, Ceramic, Thru-Hole, Disc; Body 10 x 5 mm (LxW max) Pin Spacing 12.5 mm (typ))
simulation model CAP (Capacitor)
signal-integrity model Cap
pins: 1, 2

## VKP152MCQEJ0K
designator C?
Ceramic AC Capacitor, Class X1 760VAC / Class Y1 500VAC: 1500pF K 4000; Note: See Datasheet for other lead types & tolerances; Value: 1.5nF; Published: 17-Dec-2003; DatasheetDocument: 2-Aug-2001; PackageDocument: 2-Aug-2001; PackageReference: CAPRD12.5-10X5; Publisher: Altium Limited; ComponentLink1Description: Manufacturer Link; ComponentLink1URL: http://www.vishay.com/; ComponentLink2Description: Datasheet; ComponentLink2URL: http://www.vishay.com/docs/22205/vkp.pdf
footprint CAPRD12.5-10X5 (Capacitor, Ceramic, Thru-Hole, Disc; Body 10 x 5 mm (LxW max) Pin Spacing 12.5 mm (typ))
simulation model CAP (Capacitor)
signal-integrity model Cap
pins: 1, 2

## VKP222KCQEJ0K
designator C?
Ceramic AC Capacitor, Class X1 760VAC / Class Y1 500VAC: 2200pF K 4000; Note: See Datasheet for other lead types & tolerances; Value: 2.2nF; Published: 17-Dec-2003; DatasheetDocument: 2-Aug-2001; PackageDocument: 2-Aug-2001; PackageReference: CAPRD12.5-12X5; Publisher: Altium Limited; ComponentLink1Description: Manufacturer Link; ComponentLink1URL: http://www.vishay.com/; ComponentLink2Description: Datasheet; ComponentLink2URL: http://www.vishay.com/docs/22205/vkp.pdf
footprint CAPRD12.5-12X5 (Capacitor, Ceramic, Thru-Hole, Disc; Body 12 x 5 mm (LxW max) Pin Spacing 12.5 mm (typ))
simulation model CAP (Capacitor)
signal-integrity model Cap
pins: 1, 2

## VKP222MCQEJ0K
designator C?
Ceramic AC Capacitor, Class X1 760VAC / Class Y1 500VAC: 2200pF K 4000; Note: See Datasheet for other lead types & tolerances; Value: 2.2nF; Published: 17-Dec-2003; DatasheetDocument: 2-Aug-2001; PackageDocument: 2-Aug-2001; PackageReference: CAPRD12.5-12X5; Publisher: Altium Limited; ComponentLink1Description: Manufacturer Link; ComponentLink1URL: http://www.vishay.com/; ComponentLink2Description: Datasheet; ComponentLink2URL: http://www.vishay.com/docs/22205/vkp.pdf
footprint CAPRD12.5-12X5 (Capacitor, Ceramic, Thru-Hole, Disc; Body 12 x 5 mm (LxW max) Pin Spacing 12.5 mm (typ))
simulation model CAP (Capacitor)
signal-integrity model Cap
pins: 1, 2

## VKP272KCQEJ0K
designator C?
Ceramic AC Capacitor, Class X1 760VAC / Class Y1 500VAC: 2700pF K 4000; Note: See Datasheet for other lead types & tolerances; Value: 2.7nF; Published: 17-Dec-2003; DatasheetDocument: 2-Aug-2001; PackageDocument: 2-Aug-2001; PackageReference: CAPRD12.5-13X5; Publisher: Altium Limited; ComponentLink1Description: Manufacturer Link; ComponentLink1URL: http://www.vishay.com/; ComponentLink2Description: Datasheet; ComponentLink2URL: http://www.vishay.com/docs/22205/vkp.pdf
footprint CAPRD12.5-13X5 (Capacitor, Ceramic, Thru-Hole, Disc; Body 13 x 5 mm (LxW max) Pin Spacing 12.5 mm (typ))
simulation model CAP (Capacitor)
signal-integrity model Cap
pins: 1, 2

## VKP272MCQEJ0K
designator C?
Ceramic AC Capacitor, Class X1 760VAC / Class Y1 500VAC: 2700pF K 4000; Note: See Datasheet for other lead types & tolerances; Value: 2.7nF; Published: 17-Dec-2003; DatasheetDocument: 2-Aug-2001; PackageDocument: 2-Aug-2001; PackageReference: CAPRD12.5-13X5; Publisher: Altium Limited; ComponentLink1Description: Manufacturer Link; ComponentLink1URL: http://www.vishay.com/; ComponentLink2Description: Datasheet; ComponentLink2URL: http://www.vishay.com/docs/22205/vkp.pdf
footprint CAPRD12.5-13X5 (Capacitor, Ceramic, Thru-Hole, Disc; Body 13 x 5 mm (LxW max) Pin Spacing 12.5 mm (typ))
simulation model CAP (Capacitor)
signal-integrity model Cap
pins: 1, 2

## VKP332KCQEJ0K
designator C?
Ceramic AC Capacitor, Class X1 760VAC / Class Y1 500VAC: 3300pF K 4000; Note: See Datasheet for other lead types & tolerances; Value: 3.3nF; Published: 17-Dec-2003; DatasheetDocument: 2-Aug-2001; PackageDocument: 2-Aug-2001; PackageReference: CAPRD12.5-15X5; Publisher: Altium Limited; ComponentLink1Description: Manufacturer Link; ComponentLink1URL: http://www.vishay.com/; ComponentLink2Description: Datasheet; ComponentLink2URL: http://www.vishay.com/docs/22205/vkp.pdf
footprint CAPRD12.5-15X5 (Capacitor, Ceramic, Thru-Hole, Disc; Body 15 x 5 mm (LxW max) Pin Spacing 12.5 mm (typ))
simulation model CAP (Capacitor)
signal-integrity model Cap
pins: 1, 2

## VKP332MCQEJ0K
designator C?
Ceramic AC Capacitor, Class X1 760VAC / Class Y1 500VAC: 3300pF K 4000; Note: See Datasheet for other lead types & tolerances; Value: 3.3nF; Published: 17-Dec-2003; DatasheetDocument: 2-Aug-2001; PackageDocument: 2-Aug-2001; PackageReference: CAPRD12.5-15X5; Publisher: Altium Limited; ComponentLink1Description: Manufacturer Link; ComponentLink1URL: http://www.vishay.com/; ComponentLink2Description: Datasheet; ComponentLink2URL: http://www.vishay.com/docs/22205/vkp.pdf
footprint CAPRD12.5-15X5 (Capacitor, Ceramic, Thru-Hole, Disc; Body 15 x 5 mm (LxW max) Pin Spacing 12.5 mm (typ))
simulation model CAP (Capacitor)
signal-integrity model Cap
pins: 1, 2

## VKP392KCQEJ0K
designator C?
Ceramic AC Capacitor, Class X1 760VAC / Class Y1 500VAC: 3900pF K 4000; Note: See Datasheet for other lead types & tolerances; Value: 3.9nF; Published: 17-Dec-2003; DatasheetDocument: 2-Aug-2001; PackageDocument: 2-Aug-2001; PackageReference: CAPRD12.5-15X5; Publisher: Altium Limited; ComponentLink1Description: Manufacturer Link; ComponentLink1URL: http://www.vishay.com/; ComponentLink2Description: Datasheet; ComponentLink2URL: http://www.vishay.com/docs/22205/vkp.pdf
footprint CAPRD12.5-15X5 (Capacitor, Ceramic, Thru-Hole, Disc; Body 15 x 5 mm (LxW max) Pin Spacing 12.5 mm (typ))
simulation model CAP (Capacitor)
signal-integrity model Cap
pins: 1, 2

## VKP392MCQEJ0K
designator C?
Ceramic AC Capacitor, Class X1 760VAC / Class Y1 500VAC: 3900pF K 4000; Note: See Datasheet for other lead types & tolerances; Value: 3.9nF; Published: 17-Dec-2003; DatasheetDocument: 2-Aug-2001; PackageDocument: 2-Aug-2001; PackageReference: CAPRD12.5-15X5; Publisher: Altium Limited; ComponentLink1Description: Manufacturer Link; ComponentLink1URL: http://www.vishay.com/; ComponentLink2Description: Datasheet; ComponentLink2URL: http://www.vishay.com/docs/22205/vkp.pdf
footprint CAPRD12.5-15X5 (Capacitor, Ceramic, Thru-Hole, Disc; Body 15 x 5 mm (LxW max) Pin Spacing 12.5 mm (typ))
simulation model CAP (Capacitor)
signal-integrity model Cap
pins: 1, 2

## VKP471KCQEF0K
designator C?
Ceramic AC Capacitor, Class X1 760VAC / Class Y1 500VAC: 470pF K 4000; Note: See Datasheet for other lead types & tolerances; Published: 17-Dec-2003; DatasheetDocument: 2-Aug-2001; PackageDocument: 2-Aug-2001; PackageReference: CAPRD12.5-8X5; Publisher: Altium Limited; ComponentLink1Description: Manufacturer Link; ComponentLink1URL: http://www.vishay.com/; ComponentLink2Description: Datasheet; ComponentLink2URL: http://www.vishay.com/docs/22205/vkp.pdf; Value: 470pF
footprint CAPRD12.5-8X5 (Capacitor, Ceramic, Thru-Hole, Disc; Body 8 x 5 mm (LxW max) Pin Spacing 12.5 mm (typ))
simulation model CAP (Capacitor)
signal-integrity model Cap
pins: 1, 2

## VKP471MCQEF0K
designator C?
Ceramic AC Capacitor, Class X1 760VAC / Class Y1 500VAC: 470pF K 4000; Note: See Datasheet for other lead types & tolerances; Published: 17-Dec-2003; DatasheetDocument: 2-Aug-2001; PackageDocument: 2-Aug-2001; PackageReference: CAPRD12.5-8X5; Publisher: Altium Limited; ComponentLink1Description: Manufacturer Link; ComponentLink1URL: http://www.vishay.com/; ComponentLink2Description: Datasheet; ComponentLink2URL: http://www.vishay.com/docs/22205/vkp.pdf; Value: 470pF
footprint CAPRD12.5-8X5 (Capacitor, Ceramic, Thru-Hole, Disc; Body 8 x 5 mm (LxW max) Pin Spacing 12.5 mm (typ))
simulation model CAP (Capacitor)
signal-integrity model Cap
pins: 1, 2

## VKP472KCQEJ0K
designator C?
Ceramic AC Capacitor, Class X1 760VAC / Class Y1 500VAC: 4700pF K 4000; Note: See Datasheet for other lead types & tolerances; Value: 4.7nF; Published: 17-Dec-2003; DatasheetDocument: 2-Aug-2001; PackageDocument: 2-Aug-2001; PackageReference: CAPRD12.5-17X5; Publisher: Altium Limited; ComponentLink1Description: Manufacturer Link; ComponentLink1URL: http://www.vishay.com/; ComponentLink2Description: Datasheet; ComponentLink2URL: http://www.vishay.com/docs/22205/vkp.pdf
footprint CAPRD12.5-17X5 (Capacitor, Ceramic, Thru-Hole, Disc; Body 17 x 5 mm (LxW max) Pin Spacing 12.5 mm (typ))
simulation model CAP (Capacitor)
signal-integrity model Cap
pins: 1, 2

## VKP472MCQEJ0K
designator C?
Ceramic AC Capacitor, Class X1 760VAC / Class Y1 500VAC: 4700pF K 4000; Note: See Datasheet for other lead types & tolerances; Value: 4.7nF; Published: 17-Dec-2003; DatasheetDocument: 2-Aug-2001; PackageDocument: 2-Aug-2001; PackageReference: CAPRD12.5-17X5; Publisher: Altium Limited; ComponentLink1Description: Manufacturer Link; ComponentLink1URL: http://www.vishay.com/; ComponentLink2Description: Datasheet; ComponentLink2URL: http://www.vishay.com/docs/22205/vkp.pdf
footprint CAPRD12.5-17X5 (Capacitor, Ceramic, Thru-Hole, Disc; Body 17 x 5 mm (LxW max) Pin Spacing 12.5 mm (typ))
simulation model CAP (Capacitor)
signal-integrity model Cap
pins: 1, 2

## VKP681KCQEF0K
designator C?
Ceramic AC Capacitor, Class X1 760VAC / Class Y1 500VAC: 680pF K 4000; Note: See Datasheet for other lead types & tolerances; Published: 17-Dec-2003; DatasheetDocument: 2-Aug-2001; PackageDocument: 2-Aug-2001; PackageReference: CAPRD12.5-8X5; Publisher: Altium Limited; ComponentLink1Description: Manufacturer Link; ComponentLink1URL: http://www.vishay.com/; ComponentLink2Description: Datasheet; ComponentLink2URL: http://www.vishay.com/docs/22205/vkp.pdf; Value: 680pF
footprint CAPRD12.5-8X5 (Capacitor, Ceramic, Thru-Hole, Disc; Body 8 x 5 mm (LxW max) Pin Spacing 12.5 mm (typ))
simulation model CAP (Capacitor)
signal-integrity model Cap
pins: 1, 2

## VKP681MCQEF0K
designator C?
Ceramic AC Capacitor, Class X1 760VAC / Class Y1 500VAC: 680pF K 4000; Note: See Datasheet for other lead types & tolerances; Published: 17-Dec-2003; DatasheetDocument: 2-Aug-2001; PackageDocument: 2-Aug-2001; PackageReference: CAPRD12.5-8X5; Publisher: Altium Limited; ComponentLink1Description: Manufacturer Link; ComponentLink1URL: http://www.vishay.com/; ComponentLink2Description: Datasheet; ComponentLink2URL: http://www.vishay.com/docs/22205/vkp.pdf; Value: 680pF
footprint CAPRD12.5-8X5 (Capacitor, Ceramic, Thru-Hole, Disc; Body 8 x 5 mm (LxW max) Pin Spacing 12.5 mm (typ))
simulation model CAP (Capacitor)
signal-integrity model Cap
pins: 1, 2

## W1X103MCVCF0K
designator C?
Ceramic Disc Capacitor, Class X1 275VAC: 10nF K 10000; Note: See Datasheet for other lead types & tolerances; Published: 17-Dec-2003; DatasheetDocument: 2-Aug-2001; PackageDocument: 2-Aug-2001; PackageReference: CAPRD7.5-15X3; Publisher: Altium Limited; ComponentLink1Description: Manufacturer Link; ComponentLink1URL: http://www.vishay.com/; ComponentLink2Description: Datasheet; ComponentLink2URL: http://www.vishay.com/docs/22201/w1x.pdf; Value: 10nF
footprint CAPRD7.5-15X3 (Capacitor, Ceramic, Thru-Hole, Disc; Body 15 x 3 mm (LxW max) Pin Spacing 7.5 mm (typ))
simulation model CAP (Capacitor)
signal-integrity model Cap
pins: 1, 2

## W1X103SCVCF0K
designator C?
Ceramic Disc Capacitor, Class X1 275VAC: 10nF K 10000; Note: See Datasheet for other lead types & tolerances; Published: 17-Dec-2003; DatasheetDocument: 2-Aug-2001; PackageDocument: 2-Aug-2001; PackageReference: CAPRD7.5-15X3; Publisher: Altium Limited; ComponentLink1Description: Manufacturer Link; ComponentLink1URL: http://www.vishay.com/; ComponentLink2Description: Datasheet; ComponentLink2URL: http://www.vishay.com/docs/22201/w1x.pdf; Value: 10nF
footprint CAPRD7.5-15X3 (Capacitor, Ceramic, Thru-Hole, Disc; Body 15 x 3 mm (LxW max) Pin Spacing 7.5 mm (typ))
simulation model CAP (Capacitor)
signal-integrity model Cap
pins: 1, 2

## W1X153MCVCF0K
designator C?
Ceramic Disc Capacitor, Class X1 275VAC: 15nF K 10000; Note: See Datasheet for other lead types & tolerances; Published: 17-Dec-2003; DatasheetDocument: 2-Aug-2001; PackageDocument: 2-Aug-2001; PackageReference: CAPRD7.5-17X3B; Publisher: Altium Limited; ComponentLink1Description: Manufacturer Link; ComponentLink1URL: http://www.vishay.com/; ComponentLink2Description: Datasheet; ComponentLink2URL: http://www.vishay.com/docs/22201/w1x.pdf; Value: 15nF
footprint CAPRD7.5-17X3B (Capacitor, Ceramic, Thru-Hole, Disc; Body 17 x 3 mm (LxW max) Pin Spacing 7.5 mm (typ))
simulation model CAP (Capacitor)
signal-integrity model Cap
pins: 1, 2

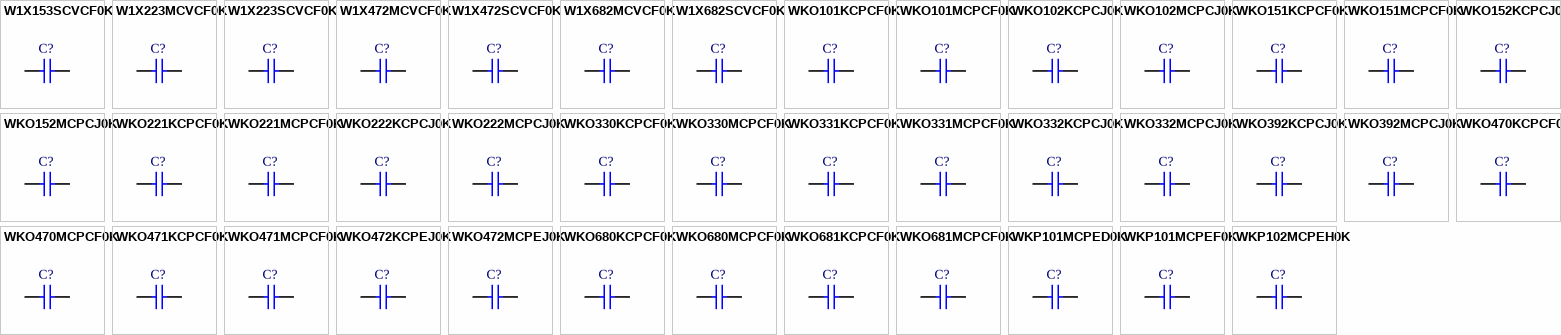
[diagram p11: symbols W1X153SCVCF0K to WKP102MCPEH0K]

## W1X153SCVCF0K
designator C?
Ceramic Disc Capacitor, Class X1 275VAC: 15nF K 10000; Note: See Datasheet for other lead types & tolerances; Published: 17-Dec-2003; DatasheetDocument: 2-Aug-2001; PackageDocument: 2-Aug-2001; PackageReference: CAPRD7.5-17X3B; Publisher: Altium Limited; ComponentLink1Description: Manufacturer Link; ComponentLink1URL: http://www.vishay.com/; ComponentLink2Description: Datasheet; ComponentLink2URL: http://www.vishay.com/docs/22201/w1x.pdf; Value: 15nF
footprint CAPRD7.5-17X3B (Capacitor, Ceramic, Thru-Hole, Disc; Body 17 x 3 mm (LxW max) Pin Spacing 7.5 mm (typ))
simulation model CAP (Capacitor)
signal-integrity model Cap
pins: 1, 2